# EAGLE library part PIC10* (library pic10f320)
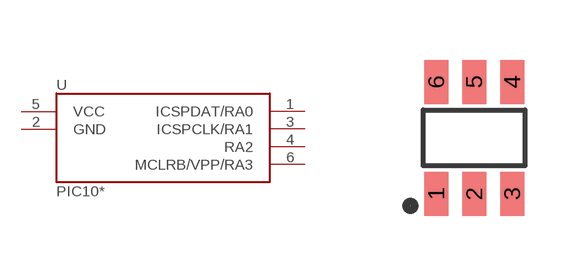
[diagram p0: symbol with the pads of SOT23; footprint SOT23]

Designator prefix -

## PIC10F320, PIC10F322, PIC10LF320, PIC10LF322  [SOT23]
1  ICSPDAT/RA0
2  GND  pas
3  ICSPCLK/RA1
4  RA2
5  VCC  pas
6  MCLRB/VPP/RA3  in

## Footprint SOT23 (pad centres in mm)
smd 0.6 x 1.1: 1 -0.95,-1.4; 2 0,-1.4; 3 0.95,-1.4; 4 0.95,1.4; 5 0,1.4; 6 -0.95,1.4